# Altium schematic symbol library Adafruit BNO055.SchLib: 1 symbol
Pins are listed as number, name and electrical type; pins without a type are passive.

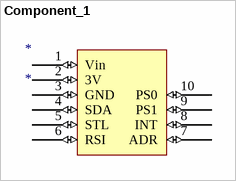
[diagram p0: symbol Component_1]

## Component_1
designator *
footprint PCBComponent_1
pins: 1 Vin (io), 2 3V (io), 3 GND (io), 4 SDA (io), 5 STL (io), 6 RSI (io), 7 ADR (io), 8 INT (io), 9 PS1 (io), 10 PS0 (io)